# EAGLE library part MCP3208 (library DECADE-libraries20151104)
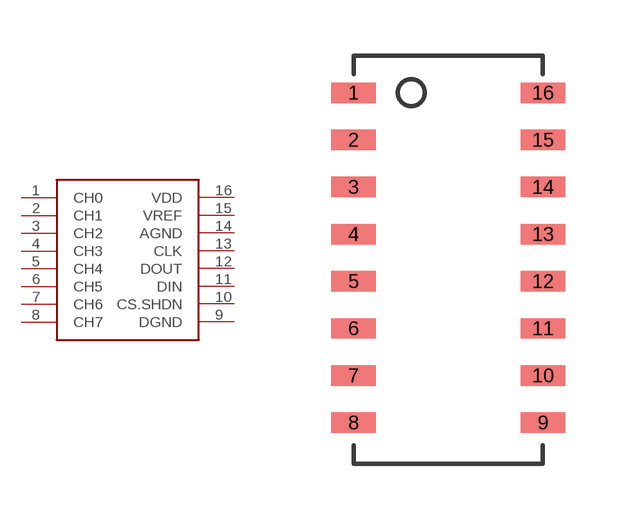
[diagram p122: symbol with the pads of DECADE-UCS2912-SOP16; footprint DECADE-UCS2912-SOP16]

Designator prefix -

## MCP3208  [DECADE-UCS2912-SOP16]
1  CH0
2  CH1
3  CH2
4  CH3
5  CH4
6  CH5
7  CH6
8  CH7
9  DGND
10  CS.SHDN
11  DIN
12  DOUT
13  CLK
14  AGND
15  VREF
16  VDD

## Footprint DECADE-UCS2912-SOP16 (pad centres in mm)
smd 1.2 x 0.55: 1 -2.55,4.5; 2 -2.55,3.23; 3 -2.55,1.96; 4 -2.55,0.69; 5 -2.55,-0.58; 6 -2.55,-1.85; 7 -2.55,-3.12; 8 -2.55,-4.39; 9 2.55,-4.39; 10 2.55,-3.12; 11 2.55,-1.85; 12 2.55,-0.58; 13 2.55,0.69; 14 2.55,1.96; 15 2.55,3.23; 16 2.55,4.5